# Altium integrated library TI Data Converters Analog to Digital Converter.IntLib: 2197 symbols (part 147 of 168)
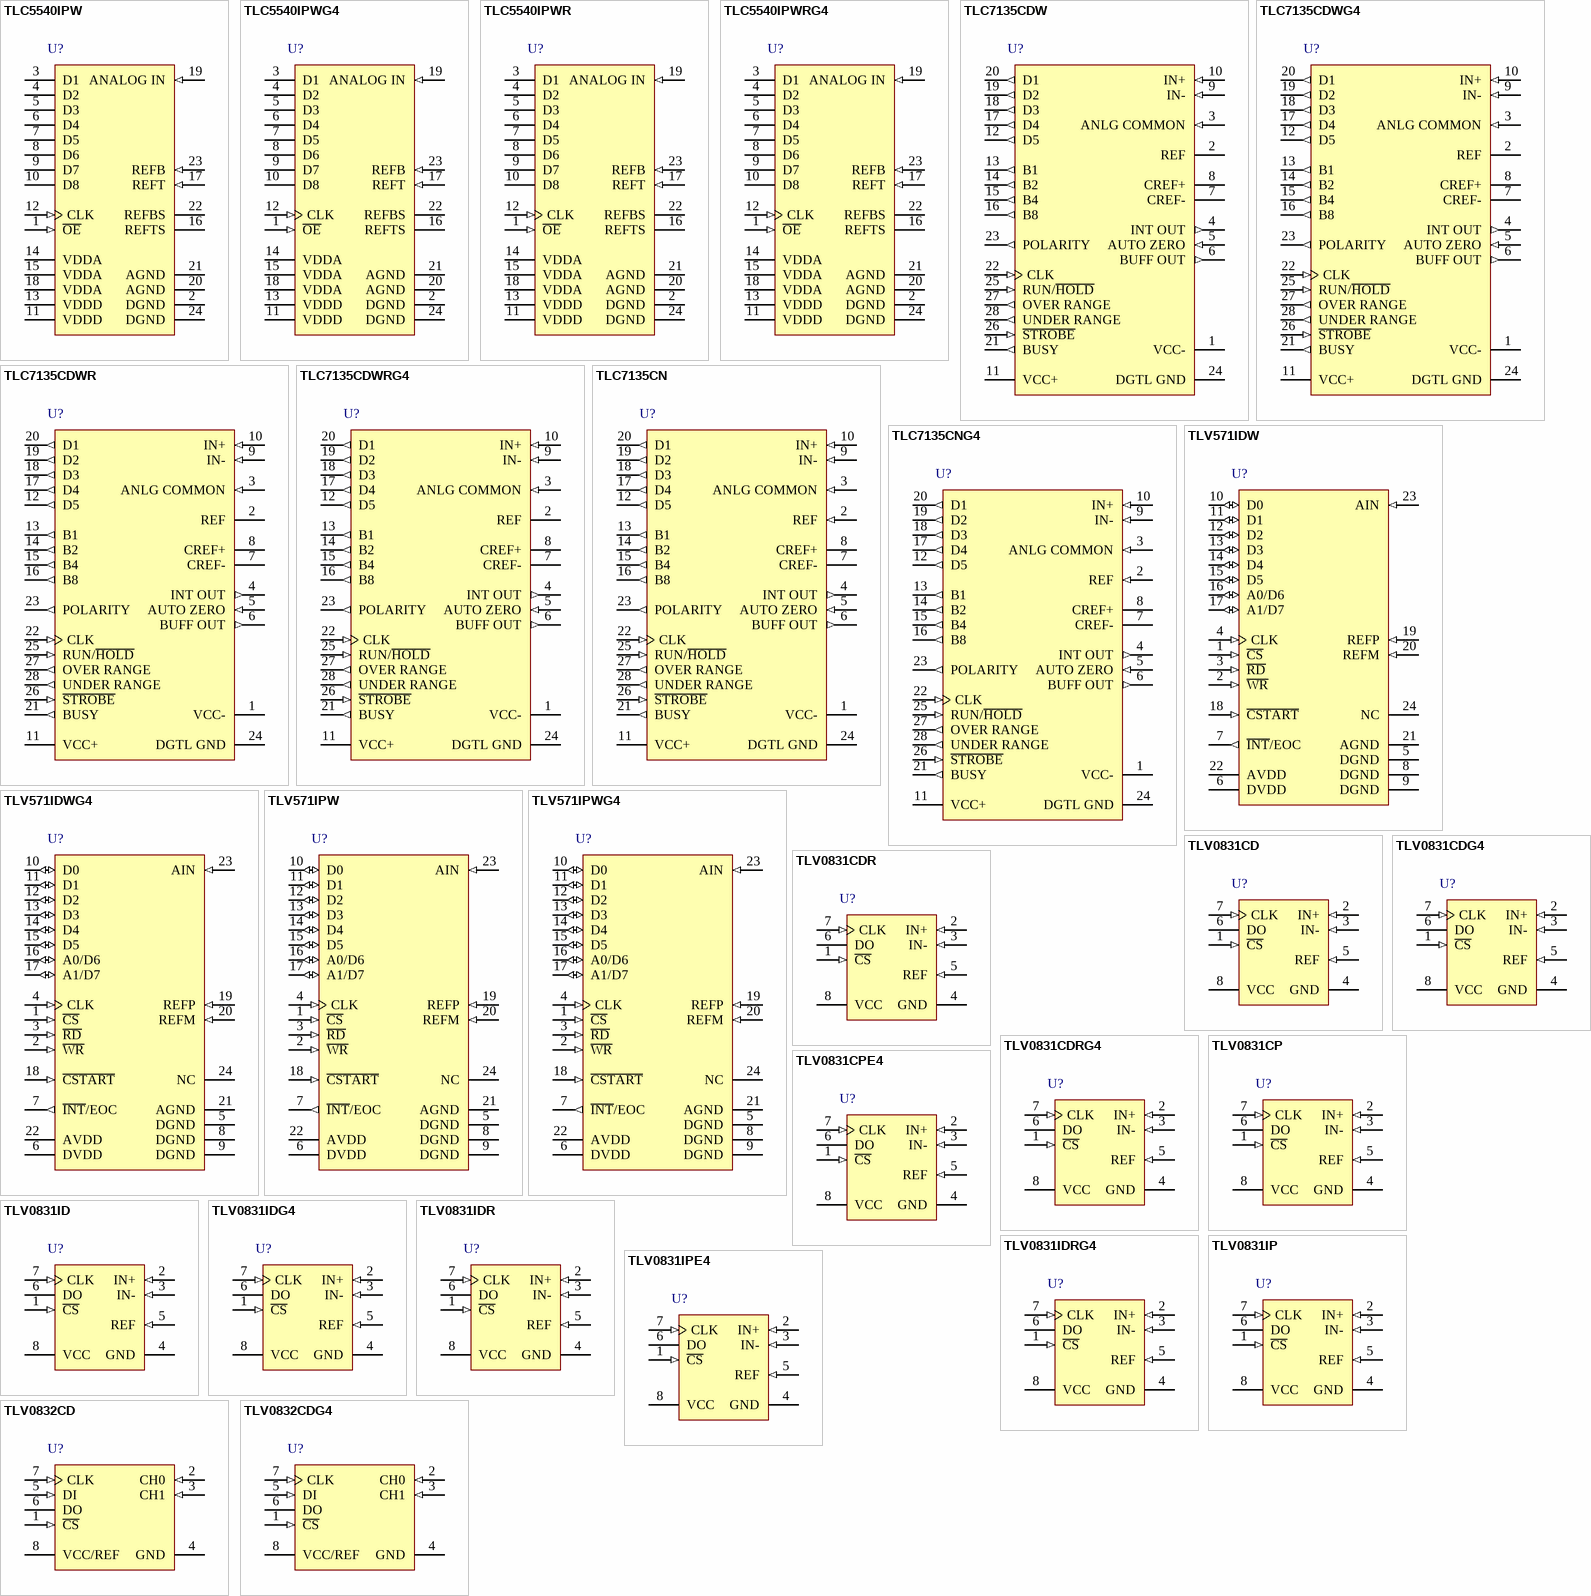
[diagram p272: symbols TLC5540IPW to TLV0832CDG4]

## TLV571IPWG4
designator U?
8-Bit, 1.25 MSPS Single Channel ADC, Hardware Configurable, Low Power with Auto or Software Power Down, -40 to 85 degC, 24-pin SOP (PW24), Green (RoHS & no Sb/Br); Manufacturer: Texas Instruments; PartNumber: TLV571IPWG4; # Input Channels: 1; Analog Voltage AV/DD(Max)(V): 5.5; Analog Voltage AV/DD(Min)(V): 2.7; Architecture: SAR; INL(Max)(+/-LSB): 0.5; Interface: Parallel CMOS; Resolution(Bits): 8; Sample Rate (max)(SPS): 1.25M; SFDR(dB): 65; SINAD(dB): 49; SubFamily: Precision ADC (<=10MSPS); DatasheetVersion: SLAS239A; PackageVersion: 4040064-6/G, 02/2011; PackageReference: PW24; PackageDescription: 24-Pin Plastic Small Outline, Body 7.8 x 4.4 mm, Pitch 0.65 mm; Supplier 1: Digi-Key; Supplier Part Number 1: 296-27933-ND; Supplier 2: Farnell; Supplier Part Number 2: 1855113; Supplier 3: Newark; Supplier Part Number 3: 13T1874; Supplier 4: Mouser; Supplier Part Number 4: 595-ADS1296IPAG; Digital Supply(Max)(V): 5.5; Digital Supply(Min)(V): 2.7; Eco-Plan: Green (RoHS & no Sb/Br); SNR(dB): 49; Mounting Technology: Surface Mount; Code_JEDEC: MO-153; ComponentLink1Description: Manufacturer URL; ComponentLink1URL: http://www.ti.com/; ComponentLink2Description: Datasheet; ComponentLink2URL: http://www.ti.com/general/docs/lit/getliterature.tsp?genericPartNumber=TLV571&fileType=pdf; ComponentLink3Description: Package Specification; ComponentLink3URL: http://www.ti.com/litv/pdf/mpds363
footprint TI-PW24_N (SOP, 24-Leads, Body 7.8x4.4mm, Pitch 0.65mm, IPC Medium Density)
footprint TI-PW24_L (SOP, 24-Leads, Body 7.8x4.4mm, Pitch 0.65mm, IPC High Density)
footprint TI-PW24_M (SOP, 24-Leads, Body 7.8x4.4mm, Pitch 0.65mm, IPC Low Density)
pins: 1 ~{CS} (in) "Chip select. A logic low on C\S\ enables the TLV571.", 2 ~{WR} (in) "Write data. A rising edge on the W\R\ latches in configuration data when C\S\ is low. When using software conversion start, a rising edge on W\R\ also initiates an internal sampling start pulse. When W\R\ is tied to ground, (See Datasheet)", 3 ~{RD} (in) "Read data. A falling edge on R\D\ enables a read operation on the data bus when C\S\ is low.", 4 CLK (in) "External clock input", 5 DGND (power) "Digital ground", 6 DVDD (power) "Digital supply voltage, 2.7 V to 5.5 V", 7 ~{INT}/EOC (out) "End-of-conversion/interrupt", 8 DGND (power) "Digital ground", 9 DGND (power) "Digital ground", 10 D0 (io) "Bidirectional 3-state data bus", 11 D1 (io) "Bidirectional 3-state data bus", 12 D2 (io) "Bidirectional 3-state data bus", 13 D3 (io) "Bidirectional 3-state data bus", 14 D4 (io) "Bidirectional 3-state data bus", 15 D5 (io) "Bidirectional 3-state data bus", 16 A0/D6 (io) "Bidirectional 3-state data bus. D6/A0 along with D7/A1 is used as address lines to access CR0 and CR1 for initialization.", 17 A1/D7 (io) "Bidirectional 3-state data bus. D7/A1 along with D6/A0 is used as address lines to access CR0 and CR1 for initialization.", 18 ~{CSTART} (in) "Hardware sample and conversion start input. The falling edge of C\S\T\A\R\T\ starts sampling and the rising edge of C\S\T\A\R\T\ starts conversion.", 19 REFP (in) "Upper reference voltage (nominally AVDD). The maximum input voltage range is determined by the difference between the voltage applied to REFP and REFM.", 20 REFM (in) "Lower reference voltage (nominally ground). REFM must be supplied or REFM pin must be grounded.", 21 AGND (power) "Analog ground", 22 AVDD (power) "Analog supply voltage, 2.7 V to 5.5 V", 23 AIN (in) "ADC analog input", 24 NC "Not connected"

## TLV0831CD
designator U?
8-Bit 49 kSPS ADC Serial Out, Differential Input, Configurable as Serial Input, 1 Channel, 0 to 70 degC, 8-pin SOIC (D8), Green (RoHS and no Sb/Br); Manufacturer: Texas Instruments; PartNumber: TLV0831CD; # Input Channels: 1; Analog Voltage AV/DD(Max)(V): 3.6; Analog Voltage AV/DD(Min)(V): 2.7; Architecture: SAR; Eco-Plan: Green (RoHS & no Sb/Br); Interface: Serial SPI; Resolution(Bits): 8; Sample Rate (max)(SPS): 49k; SubFamily: Precision ADC (<=10MSPS); DatasheetVersion: SLAS148; PackageVersion: 4040047-3/M, 06/2011; PackageReference: D8; PackageDescription: 8-Pin Plastic Small Outline, Body 4.9 x 3.9 mm, Pitch 1.27 mm; Supplier 1: Digi-Key; Supplier Part Number 1: ADS1296IPAGR-ND; Supplier 2: Mouser; Supplier Part Number 2: 595-ADS1296IPAGR; Digital Supply(Max)(V): 3.6; Digital Supply(Min)(V): 2.7; Mounting Technology: Surface Mount; Code_JEDEC: MS-012; ComponentLink1Description: Manufacturer URL; ComponentLink1URL: http://www.ti.com/; ComponentLink2Description: Datasheet; ComponentLink2URL: http://www.ti.com/general/docs/lit/getliterature.tsp?genericPartNumber=TLV0831&fileType=pdf; ComponentLink3Description: Package Specification; ComponentLink3URL: http://www.ti.com/litv/pdf/msoi002j
footprint TI-D8_N (SOIC, 8-Leads, Body 4.9x3.9mm, Pitch 1.27mm, IPC Medium Density)
footprint TI-D8_L (SOIC, 8-Leads, Body 4.9x3.9mm, Pitch 1.27mm, IPC High Density)
footprint TI-D8_M (SOIC, 8-Leads, Body 4.9x3.9mm, Pitch 1.27mm, IPC Low Density)
pins: 1 ~{CS} (in), 2 IN+ (in), 3 IN- (in), 4 GND (power), 5 REF (in), 6 DO (hiz), 7 CLK (in), 8 VCC (power)

## TLV0831CDG4
designator U?
8-Bit 49 kSPS ADC Serial Out, Differential Input, Configurable as Serial Input, 1 Channel, 0 to 70 degC, 8-pin SOIC (D8), Green (RoHS and no Sb/Br); Manufacturer: Texas Instruments; PartNumber: TLV0831CDG4; # Input Channels: 1; Analog Voltage AV/DD(Max)(V): 3.6; Analog Voltage AV/DD(Min)(V): 2.7; Architecture: SAR; Eco-Plan: Green (RoHS & no Sb/Br); Interface: Serial SPI; Resolution(Bits): 8; Sample Rate (max)(SPS): 49k; SubFamily: Precision ADC (<=10MSPS); DatasheetVersion: SLAS148; PackageVersion: 4040047-3/M, 06/2011; PackageReference: D8; PackageDescription: 8-Pin Plastic Small Outline, Body 4.9 x 3.9 mm, Pitch 1.27 mm; Supplier 1: Digi-Key; Supplier Part Number 1: ADS1294RIZXGR-ND; Supplier 2: Mouser; Supplier Part Number 2: 595-ADS1294RIZXGR; Digital Supply(Max)(V): 3.6; Digital Supply(Min)(V): 2.7; Mounting Technology: Surface Mount; Code_JEDEC: MS-012; ComponentLink1Description: Manufacturer URL; ComponentLink1URL: http://www.ti.com/; ComponentLink2Description: Datasheet; ComponentLink2URL: http://www.ti.com/general/docs/lit/getliterature.tsp?genericPartNumber=TLV0831&fileType=pdf; ComponentLink3Description: Package Specification; ComponentLink3URL: http://www.ti.com/litv/pdf/msoi002j
footprint TI-D8_N (SOIC, 8-Leads, Body 4.9x3.9mm, Pitch 1.27mm, IPC Medium Density)
footprint TI-D8_L (SOIC, 8-Leads, Body 4.9x3.9mm, Pitch 1.27mm, IPC High Density)
footprint TI-D8_M (SOIC, 8-Leads, Body 4.9x3.9mm, Pitch 1.27mm, IPC Low Density)
pins: 1 ~{CS} (in), 2 IN+ (in), 3 IN- (in), 4 GND (power), 5 REF (in), 6 DO (hiz), 7 CLK (in), 8 VCC (power)

## TLV0831CDR
designator U?
8-Bit 49 kSPS ADC Serial Out, Differential Input, Configurable as Serial Input, 1 Channel, 0 to 70 degC, 8-pin SOIC (D8), Green (RoHS and no Sb/Br); Manufacturer: Texas Instruments; PartNumber: TLV0831CDR; # Input Channels: 1; Analog Voltage AV/DD(Max)(V): 3.6; Analog Voltage AV/DD(Min)(V): 2.7; Architecture: SAR; Eco-Plan: Green (RoHS & no Sb/Br); Interface: Serial SPI; Resolution(Bits): 8; Sample Rate (max)(SPS): 49k; SubFamily: Precision ADC (<=10MSPS); DatasheetVersion: SLAS148; PackageVersion: 4040047-3/M, 06/2011; PackageReference: D8; PackageDescription: 8-Pin Plastic Small Outline, Body 4.9 x 3.9 mm, Pitch 1.27 mm; Supplier 1: Digi-Key; Supplier Part Number 1: 296-28271-2-ND; Supplier 2: Digi-Key; Supplier Part Number 2: 296-28271-1-ND; Supplier 3: Digi-Key; Supplier Part Number 3: 296-28271-6-ND; Supplier 4: Farnell; Supplier Part Number 4: 1882262; Supplier 5: Newark; Supplier Part Number 5: 32T2529; Supplier 6: Mouser; Supplier Part Number 6: 595-ADS1294RIZXGT; Digital Supply(Max)(V): 3.6; Digital Supply(Min)(V): 2.7; Mounting Technology: Surface Mount; Code_JEDEC: MS-012; ComponentLink1Description: Manufacturer URL; ComponentLink1URL: http://www.ti.com/; ComponentLink2Description: Datasheet; ComponentLink2URL: http://www.ti.com/general/docs/lit/getliterature.tsp?genericPartNumber=TLV0831&fileType=pdf; ComponentLink3Description: Package Specification; ComponentLink3URL: http://www.ti.com/litv/pdf/msoi002j
footprint TI-D8_N (SOIC, 8-Leads, Body 4.9x3.9mm, Pitch 1.27mm, IPC Medium Density)
footprint TI-D8_L (SOIC, 8-Leads, Body 4.9x3.9mm, Pitch 1.27mm, IPC High Density)
footprint TI-D8_M (SOIC, 8-Leads, Body 4.9x3.9mm, Pitch 1.27mm, IPC Low Density)
pins: 1 ~{CS} (in), 2 IN+ (in), 3 IN- (in), 4 GND (power), 5 REF (in), 6 DO (hiz), 7 CLK (in), 8 VCC (power)

## TLV0831CDRG4
designator U?
8-Bit 49 kSPS ADC Serial Out, Differential Input, Configurable as Serial Input, 1 Channel, 0 to 70 degC, 8-pin SOIC (D8), Green (RoHS and no Sb/Br); Manufacturer: Texas Instruments; PartNumber: TLV0831CDRG4; # Input Channels: 1; Analog Voltage AV/DD(Max)(V): 3.6; Analog Voltage AV/DD(Min)(V): 2.7; Architecture: SAR; Eco-Plan: Green (RoHS & no Sb/Br); Interface: Serial SPI; Resolution(Bits): 8; Sample Rate (max)(SPS): 49k; SubFamily: Precision ADC (<=10MSPS); DatasheetVersion: SLAS148; PackageVersion: 4040047-3/M, 06/2011; PackageReference: D8; PackageDescription: 8-Pin Plastic Small Outline, Body 4.9 x 3.9 mm, Pitch 1.27 mm; Supplier 1: Digi-Key; Supplier Part Number 1: ADS1294CZXGR-ND; Supplier 2: Newark; Supplier Part Number 2: 17T1596; Supplier 3: Mouser; Supplier Part Number 3: 595-ADS1294CZXGR; Digital Supply(Max)(V): 3.6; Digital Supply(Min)(V): 2.7; Mounting Technology: Surface Mount; Code_JEDEC: MS-012; ComponentLink1Description: Manufacturer URL; ComponentLink1URL: http://www.ti.com/; ComponentLink2Description: Datasheet; ComponentLink2URL: http://www.ti.com/general/docs/lit/getliterature.tsp?genericPartNumber=TLV0831&fileType=pdf; ComponentLink3Description: Package Specification; ComponentLink3URL: http://www.ti.com/litv/pdf/msoi002j
footprint TI-D8_N (SOIC, 8-Leads, Body 4.9x3.9mm, Pitch 1.27mm, IPC Medium Density)
footprint TI-D8_L (SOIC, 8-Leads, Body 4.9x3.9mm, Pitch 1.27mm, IPC High Density)
footprint TI-D8_M (SOIC, 8-Leads, Body 4.9x3.9mm, Pitch 1.27mm, IPC Low Density)
pins: 1 ~{CS} (in), 2 IN+ (in), 3 IN- (in), 4 GND (power), 5 REF (in), 6 DO (hiz), 7 CLK (in), 8 VCC (power)

## TLV0831CP
designator U?
8-Bit 49 kSPS ADC Serial Out, Differential Input, Configurable as Serial Input, 1 Channel, 0 to 70 degC, 8-pin DIP (P8), Green (RoHS and no Sb/Br); Manufacturer: Texas Instruments; PartNumber: TLV0831CP; # Input Channels: 1; Analog Voltage AV/DD(Max)(V): 3.6; Analog Voltage AV/DD(Min)(V): 2.7; Architecture: SAR; Eco-Plan: Green (RoHS & no Sb/Br); Interface: Serial SPI; Resolution(Bits): 8; Sample Rate (max)(SPS): 49k; SubFamily: Precision ADC (<=10MSPS); DatasheetVersion: SLAS148; PackageVersion: 4040082/E, 04/2010; PackageReference: P8; PackageDescription: 8-Pin Plastic In-Line, Body 9.59 x 6.35 mm, Pitch 2.54 mm; Supplier 1: Digi-Key; Supplier Part Number 1: 296-28024-2-ND; Supplier 2: Digi-Key; Supplier Part Number 2: 296-28024-1-ND; Supplier 3: Digi-Key; Supplier Part Number 3: 296-28024-6-ND; Supplier 4: Farnell; Supplier Part Number 4: 1864806; Supplier 5: Newark; Supplier Part Number 5: 17T1597; Supplier 6: Mouser; Supplier Part Number 6: 595-ADS1294CZXGT; Digital Supply(Max)(V): 3.6; Digital Supply(Min)(V): 2.7; Mounting Technology: Through Hole; Code_JEDEC: MS-001; ComponentLink1Description: Manufacturer URL; ComponentLink1URL: http://www.ti.com/; ComponentLink2Description: Datasheet; ComponentLink2URL: http://www.ti.com/general/docs/lit/getliterature.tsp?genericPartNumber=TLV0831&fileType=pdf; ComponentLink3Description: Package Specification; ComponentLink3URL: http://www.ti.com/litv/pdf/mpdi001b
footprint TI-P8 (DIP, 8-Leads, Body 9.59x6.35mm, Pitch 2.54mm)
pins: 1 ~{CS} (in), 2 IN+ (in), 3 IN- (in), 4 GND (power), 5 REF (in), 6 DO (hiz), 7 CLK (in), 8 VCC (power)

## TLV0831CPE4
designator U?
8-Bit 49 kSPS ADC Serial Out, Differential Input, Configurable as Serial Input, 1 Channel, 0 to 70 degC, 8-pin DIP (P8), Green (RoHS and no Sb/Br); Manufacturer: Texas Instruments; PartNumber: TLV0831CPE4; # Input Channels: 1; Analog Voltage AV/DD(Max)(V): 3.6; Analog Voltage AV/DD(Min)(V): 2.7; Architecture: SAR; Eco-Plan: Green (RoHS & no Sb/Br); Interface: Serial SPI; Resolution(Bits): 8; Sample Rate (max)(SPS): 49k; SubFamily: Precision ADC (<=10MSPS); DatasheetVersion: SLAS148; PackageVersion: 4040082/E, 04/2010; PackageReference: P8; PackageDescription: 8-Pin Plastic In-Line, Body 9.59 x 6.35 mm, Pitch 2.54 mm; Supplier 1: Digi-Key; Supplier Part Number 1: 296-27932-ND; Supplier 2: Farnell; Supplier Part Number 2: 1855112; Supplier 3: Newark; Supplier Part Number 3: 13T1872; Supplier 4: Mouser; Supplier Part Number 4: 595-ADS1294IPAG; Digital Supply(Max)(V): 3.6; Digital Supply(Min)(V): 2.7; Mounting Technology: Through Hole; Code_JEDEC: MS-001; ComponentLink1Description: Manufacturer URL; ComponentLink1URL: http://www.ti.com/; ComponentLink2Description: Datasheet; ComponentLink2URL: http://www.ti.com/general/docs/lit/getliterature.tsp?genericPartNumber=TLV0831&fileType=pdf; ComponentLink3Description: Package Specification; ComponentLink3URL: http://www.ti.com/litv/pdf/mpdi001b
footprint TI-P8 (DIP, 8-Leads, Body 9.59x6.35mm, Pitch 2.54mm)
pins: 1 ~{CS} (in), 2 IN+ (in), 3 IN- (in), 4 GND (power), 5 REF (in), 6 DO (hiz), 7 CLK (in), 8 VCC (power)

## TLV0831ID
designator U?
8-Bit 49 kSPS ADC Serial Out, Differential Input, Configurable as Serial Input, 1 Channel, -40 to 85 degC, 8-pin SOIC (D8), Green (RoHS and no Sb/Br); Manufacturer: Texas Instruments; PartNumber: TLV0831ID; # Input Channels: 1; Analog Voltage AV/DD(Max)(V): 3.6; Analog Voltage AV/DD(Min)(V): 2.7; Architecture: SAR; Eco-Plan: Green (RoHS & no Sb/Br); Interface: Serial SPI; Resolution(Bits): 8; Sample Rate (max)(SPS): 49k; SubFamily: Precision ADC (<=10MSPS); DatasheetVersion: SLAS148; PackageVersion: 4040047-3/M, 06/2011; PackageReference: D8; PackageDescription: 8-Pin Plastic Small Outline, Body 4.9 x 3.9 mm, Pitch 1.27 mm; Supplier 1: Digi-Key; Supplier Part Number 1: ADS1294IPAGR-ND; Supplier 2: Mouser; Supplier Part Number 2: 595-ADS1294IPAGR; Digital Supply(Max)(V): 3.6; Digital Supply(Min)(V): 2.7; Mounting Technology: Surface Mount; Code_JEDEC: MS-012; ComponentLink1Description: Manufacturer URL; ComponentLink1URL: http://www.ti.com/; ComponentLink2Description: Datasheet; ComponentLink2URL: http://www.ti.com/general/docs/lit/getliterature.tsp?genericPartNumber=TLV0831&fileType=pdf; ComponentLink3Description: Package Specification; ComponentLink3URL: http://www.ti.com/litv/pdf/msoi002j
footprint TI-D8_N (SOIC, 8-Leads, Body 4.9x3.9mm, Pitch 1.27mm, IPC Medium Density)
footprint TI-D8_L (SOIC, 8-Leads, Body 4.9x3.9mm, Pitch 1.27mm, IPC High Density)
footprint TI-D8_M (SOIC, 8-Leads, Body 4.9x3.9mm, Pitch 1.27mm, IPC Low Density)
pins: 1 ~{CS} (in), 2 IN+ (in), 3 IN- (in), 4 GND (power), 5 REF (in), 6 DO (hiz), 7 CLK (in), 8 VCC (power)

## TLV0831IDG4
designator U?
8-Bit 49 kSPS ADC Serial Out, Differential Input, Configurable as Serial Input, 1 Channel, -40 to 85 degC, 8-pin SOIC (D8), Green (RoHS and no Sb/Br); Manufacturer: Texas Instruments; PartNumber: TLV0831IDG4; # Input Channels: 1; Analog Voltage AV/DD(Max)(V): 3.6; Analog Voltage AV/DD(Min)(V): 2.7; Architecture: SAR; Eco-Plan: Green (RoHS & no Sb/Br); Interface: Serial SPI; Resolution(Bits): 8; Sample Rate (max)(SPS): 49k; SubFamily: Precision ADC (<=10MSPS); DatasheetVersion: SLAS148; PackageVersion: 4040047-3/M, 06/2011; PackageReference: D8; PackageDescription: 8-Pin Plastic Small Outline, Body 4.9 x 3.9 mm, Pitch 1.27 mm; Supplier 1: Digi-Key; Supplier Part Number 1: 296-27931-ND; Supplier 2: Farnell; Supplier Part Number 2: 1855110; Supplier 3: Newark; Supplier Part Number 3: 13T1868; Supplier 4: Mouser; Supplier Part Number 4: 595-ADS1194CPAG; Digital Supply(Max)(V): 3.6; Digital Supply(Min)(V): 2.7; Mounting Technology: Surface Mount; Code_JEDEC: MS-012; ComponentLink1Description: Manufacturer URL; ComponentLink1URL: http://www.ti.com/; ComponentLink2Description: Datasheet; ComponentLink2URL: http://www.ti.com/general/docs/lit/getliterature.tsp?genericPartNumber=TLV0831&fileType=pdf; ComponentLink3Description: Package Specification; ComponentLink3URL: http://www.ti.com/litv/pdf/msoi002j
footprint TI-D8_N (SOIC, 8-Leads, Body 4.9x3.9mm, Pitch 1.27mm, IPC Medium Density)
footprint TI-D8_L (SOIC, 8-Leads, Body 4.9x3.9mm, Pitch 1.27mm, IPC High Density)
footprint TI-D8_M (SOIC, 8-Leads, Body 4.9x3.9mm, Pitch 1.27mm, IPC Low Density)
pins: 1 ~{CS} (in), 2 IN+ (in), 3 IN- (in), 4 GND (power), 5 REF (in), 6 DO (hiz), 7 CLK (in), 8 VCC (power)

## TLV0831IDR
designator U?
8-Bit 49 kSPS ADC Serial Out, Differential Input, Configurable as Serial Input, 1 Channel, -40 to 85 degC, 8-pin SOIC (D8), Green (RoHS and no Sb/Br); Manufacturer: Texas Instruments; PartNumber: TLV0831IDR; # Input Channels: 1; Analog Voltage AV/DD(Max)(V): 3.6; Analog Voltage AV/DD(Min)(V): 2.7; Architecture: SAR; Eco-Plan: Green (RoHS & no Sb/Br); Interface: Serial SPI; Resolution(Bits): 8; Sample Rate (max)(SPS): 49k; SubFamily: Precision ADC (<=10MSPS); DatasheetVersion: SLAS148; PackageVersion: 4040047-3/M, 06/2011; PackageReference: D8; PackageDescription: 8-Pin Plastic Small Outline, Body 4.9 x 3.9 mm, Pitch 1.27 mm; Supplier 1: Digi-Key; Supplier Part Number 1: ADS1194CPAGR-ND; Supplier 2: Newark; Supplier Part Number 2: 13T1869; Supplier 3: Mouser; Supplier Part Number 3: 595-ADS1194CPAGR; Digital Supply(Max)(V): 3.6; Digital Supply(Min)(V): 2.7; Mounting Technology: Surface Mount; Code_JEDEC: MS-012; ComponentLink1Description: Manufacturer URL; ComponentLink1URL: http://www.ti.com/; ComponentLink2Description: Datasheet; ComponentLink2URL: http://www.ti.com/general/docs/lit/getliterature.tsp?genericPartNumber=TLV0831&fileType=pdf; ComponentLink3Description: Package Specification; ComponentLink3URL: http://www.ti.com/litv/pdf/msoi002j
footprint TI-D8_N (SOIC, 8-Leads, Body 4.9x3.9mm, Pitch 1.27mm, IPC Medium Density)
footprint TI-D8_L (SOIC, 8-Leads, Body 4.9x3.9mm, Pitch 1.27mm, IPC High Density)
footprint TI-D8_M (SOIC, 8-Leads, Body 4.9x3.9mm, Pitch 1.27mm, IPC Low Density)
pins: 1 ~{CS} (in), 2 IN+ (in), 3 IN- (in), 4 GND (power), 5 REF (in), 6 DO (hiz), 7 CLK (in), 8 VCC (power)

## TLV0831IDRG4
designator U?
8-Bit 49 kSPS ADC Serial Out, Differential Input, Configurable as Serial Input, 1 Channel, -40 to 85 degC, 8-pin SOIC (D8), Green (RoHS and no Sb/Br); Manufacturer: Texas Instruments; PartNumber: TLV0831IDRG4; # Input Channels: 1; Analog Voltage AV/DD(Max)(V): 3.6; Analog Voltage AV/DD(Min)(V): 2.7; Architecture: SAR; Eco-Plan: Green (RoHS & no Sb/Br); Interface: Serial SPI; Resolution(Bits): 8; Sample Rate (max)(SPS): 49k; SubFamily: Precision ADC (<=10MSPS); DatasheetVersion: SLAS148; PackageVersion: 4040047-3/M, 06/2011; PackageReference: D8; PackageDescription: 8-Pin Plastic Small Outline, Body 4.9 x 3.9 mm, Pitch 1.27 mm; Supplier 1: Digi-Key; Supplier Part Number 1: ADS1194CZXGR-ND; Supplier 2: Mouser; Supplier Part Number 2: 595-ADS1194CZXGR; Digital Supply(Max)(V): 3.6; Digital Supply(Min)(V): 2.7; Mounting Technology: Surface Mount; Code_JEDEC: MS-012; ComponentLink1Description: Manufacturer URL; ComponentLink1URL: http://www.ti.com/; ComponentLink2Description: Datasheet; ComponentLink2URL: http://www.ti.com/general/docs/lit/getliterature.tsp?genericPartNumber=TLV0831&fileType=pdf; ComponentLink3Description: Package Specification; ComponentLink3URL: http://www.ti.com/litv/pdf/msoi002j
footprint TI-D8_N (SOIC, 8-Leads, Body 4.9x3.9mm, Pitch 1.27mm, IPC Medium Density)
footprint TI-D8_L (SOIC, 8-Leads, Body 4.9x3.9mm, Pitch 1.27mm, IPC High Density)
footprint TI-D8_M (SOIC, 8-Leads, Body 4.9x3.9mm, Pitch 1.27mm, IPC Low Density)
pins: 1 ~{CS} (in), 2 IN+ (in), 3 IN- (in), 4 GND (power), 5 REF (in), 6 DO (hiz), 7 CLK (in), 8 VCC (power)

## TLV0831IP
designator U?
8-Bit 49 kSPS ADC Serial Out, Differential Input, Configurable as Serial Input, 1 Channel, -40 to 85 degC, 8-pin DIP (P8), Green (RoHS and no Sb/Br); Manufacturer: Texas Instruments; PartNumber: TLV0831IP; # Input Channels: 1; Analog Voltage AV/DD(Max)(V): 3.6; Analog Voltage AV/DD(Min)(V): 2.7; Architecture: SAR; Eco-Plan: Green (RoHS & no Sb/Br); Interface: Serial SPI; Resolution(Bits): 8; Sample Rate (max)(SPS): 49k; SubFamily: Precision ADC (<=10MSPS); DatasheetVersion: SLAS148; PackageVersion: 4040082/E, 04/2010; PackageReference: P8; PackageDescription: 8-Pin Plastic In-Line, Body 9.59 x 6.35 mm, Pitch 2.54 mm; Supplier 1: Digi-Key; Supplier Part Number 1: 296-28070-2-ND; Supplier 2: Digi-Key; Supplier Part Number 2: 296-28070-1-ND; Supplier 3: Digi-Key; Supplier Part Number 3: 296-28070-6-ND; Supplier 4: Mouser; Supplier Part Number 4: 595-ADS1194CZXGT; Digital Supply(Max)(V): 3.6; Digital Supply(Min)(V): 2.7; Mounting Technology: Through Hole; Code_JEDEC: MS-001; ComponentLink1Description: Manufacturer URL; ComponentLink1URL: http://www.ti.com/; ComponentLink2Description: Datasheet; ComponentLink2URL: http://www.ti.com/general/docs/lit/getliterature.tsp?genericPartNumber=TLV0831&fileType=pdf; ComponentLink3Description: Package Specification; ComponentLink3URL: http://www.ti.com/litv/pdf/mpdi001b
footprint TI-P8 (DIP, 8-Leads, Body 9.59x6.35mm, Pitch 2.54mm)
pins: 1 ~{CS} (in), 2 IN+ (in), 3 IN- (in), 4 GND (power), 5 REF (in), 6 DO (hiz), 7 CLK (in), 8 VCC (power)

## TLV0831IPE4
designator U?
8-Bit 49 kSPS ADC Serial Out, Differential Input, Configurable as Serial Input, 1 Channel, -40 to 85 degC, 8-pin DIP (P8), Green (RoHS and no Sb/Br); Manufacturer: Texas Instruments; PartNumber: TLV0831IPE4; # Input Channels: 1; Analog Voltage AV/DD(Max)(V): 3.6; Analog Voltage AV/DD(Min)(V): 2.7; Architecture: SAR; Eco-Plan: Green (RoHS & no Sb/Br); Interface: Serial SPI; Resolution(Bits): 8; Sample Rate (max)(SPS): 49k; SubFamily: Precision ADC (<=10MSPS); DatasheetVersion: SLAS148; PackageVersion: 4040082/E, 04/2010; PackageReference: P8; PackageDescription: 8-Pin Plastic In-Line, Body 9.59 x 6.35 mm, Pitch 2.54 mm; Supplier 1: Digi-Key; Supplier Part Number 1: 296-13365-5-ND; Supplier 2: Mouser; Supplier Part Number 2: 595-TLV2544QD; Digital Supply(Max)(V): 3.6; Digital Supply(Min)(V): 2.7; Mounting Technology: Through Hole; Code_JEDEC: MS-001; ComponentLink1Description: Manufacturer URL; ComponentLink1URL: http://www.ti.com/; ComponentLink2Description: Datasheet; ComponentLink2URL: http://www.ti.com/general/docs/lit/getliterature.tsp?genericPartNumber=TLV0831&fileType=pdf; ComponentLink3Description: Package Specification; ComponentLink3URL: http://www.ti.com/litv/pdf/mpdi001b
footprint TI-P8 (DIP, 8-Leads, Body 9.59x6.35mm, Pitch 2.54mm)
pins: 1 ~{CS} (in), 2 IN+ (in), 3 IN- (in), 4 GND (power), 5 REF (in), 6 DO (hiz), 7 CLK (in), 8 VCC (power)

## TLV0832CD
designator U?
8-Bit 44.7 kSPS ADC Serial Out, Multiplexed Twin Channel with Single-Ended or Differential Option, 0 to 70 degC , 8-pin SOIC (D8), Green (RoHS & no Sb/Br); Manufacturer: Texas Instruments; PartNumber: TLV0832CD; # Input Channels: 2; Analog Voltage AV/DD(Max)(V): 3.6; Analog Voltage AV/DD(Min)(V): 2.7; Architecture: SAR; INL(Max)(+/-LSB): 0.5; Interface: Serial SPI; Resolution(Bits): 8; Sample Rate (max)(SPS): 44.7k; SubFamily: Precision ADC (<=10MSPS); DatasheetVersion: SLAS148; PackageVersion: 4040047-3/M, 06/2011; PackageReference: D8; PackageDescription: 8-Pin Plastic Small Outline, Body 4.9 x 3.9 mm, Pitch 1.27 mm; Supplier 1: Digi-Key; Supplier Part Number 1: TLV2544QDG4-ND; Supplier 2: Mouser; Supplier Part Number 2: 595-TLV2544QDG4; Digital Supply(Max)(V): 3.6; Digital Supply(Min)(V): 2.7; Eco-Plan: Green (RoHS & no Sb/Br); Mounting Technology: Surface Mount; Code_JEDEC: MS-012; ComponentLink1Description: Manufacturer URL; ComponentLink1URL: http://www.ti.com/; ComponentLink2Description: Datasheet; ComponentLink2URL: http://www.ti.com/general/docs/lit/getliterature.tsp?genericPartNumber=TLV0832&fileType=pdf; ComponentLink3Description: Package Specification; ComponentLink3URL: http://www.ti.com/litv/pdf/msoi002j
footprint TI-D8_N (SOIC, 8-Leads, Body 4.9x3.9mm, Pitch 1.27mm, IPC Medium Density)
footprint TI-D8_L (SOIC, 8-Leads, Body 4.9x3.9mm, Pitch 1.27mm, IPC High Density)
footprint TI-D8_M (SOIC, 8-Leads, Body 4.9x3.9mm, Pitch 1.27mm, IPC Low Density)
pins: 1 ~{CS} (in), 2 CH0 (in), 3 CH1 (in), 4 GND (power), 5 DI (in), 6 DO (hiz), 7 CLK (in), 8 VCC/REF (power)

## TLV0832CDG4
designator U?
8-Bit 44.7 kSPS ADC Serial Out, Multiplexed Twin Channel with Single-Ended or Differential Option, 0 to 70 degC , 8-pin SOIC (D8), Green (RoHS & no Sb/Br); Manufacturer: Texas Instruments; PartNumber: TLV0832CDG4; # Input Channels: 2; Analog Voltage AV/DD(Max)(V): 3.6; Analog Voltage AV/DD(Min)(V): 2.7; Architecture: SAR; INL(Max)(+/-LSB): 0.5; Interface: Serial SPI; Resolution(Bits): 8; Sample Rate (max)(SPS): 44.7k; SubFamily: Precision ADC (<=10MSPS); DatasheetVersion: SLAS148; PackageVersion: 4040047-3/M, 06/2011; PackageReference: D8; PackageDescription: 8-Pin Plastic Small Outline, Body 4.9 x 3.9 mm, Pitch 1.27 mm; Supplier 1: Digi-Key; Supplier Part Number 1: TLV2544QDR-ND; Supplier 2: Mouser; Supplier Part Number 2: 595-TLV2544QDR; Digital Supply(Max)(V): 3.6; Digital Supply(Min)(V): 2.7; Eco-Plan: Green (RoHS & no Sb/Br); Mounting Technology: Surface Mount; Code_JEDEC: MS-012; ComponentLink1Description: Manufacturer URL; ComponentLink1URL: http://www.ti.com/; ComponentLink2Description: Datasheet; ComponentLink2URL: http://www.ti.com/general/docs/lit/getliterature.tsp?genericPartNumber=TLV0832&fileType=pdf; ComponentLink3Description: Package Specification; ComponentLink3URL: http://www.ti.com/litv/pdf/msoi002j
footprint TI-D8_N (SOIC, 8-Leads, Body 4.9x3.9mm, Pitch 1.27mm, IPC Medium Density)
footprint TI-D8_L (SOIC, 8-Leads, Body 4.9x3.9mm, Pitch 1.27mm, IPC High Density)
footprint TI-D8_M (SOIC, 8-Leads, Body 4.9x3.9mm, Pitch 1.27mm, IPC Low Density)
pins: 1 ~{CS} (in), 2 CH0 (in), 3 CH1 (in), 4 GND (power), 5 DI (in), 6 DO (hiz), 7 CLK (in), 8 VCC/REF (power)

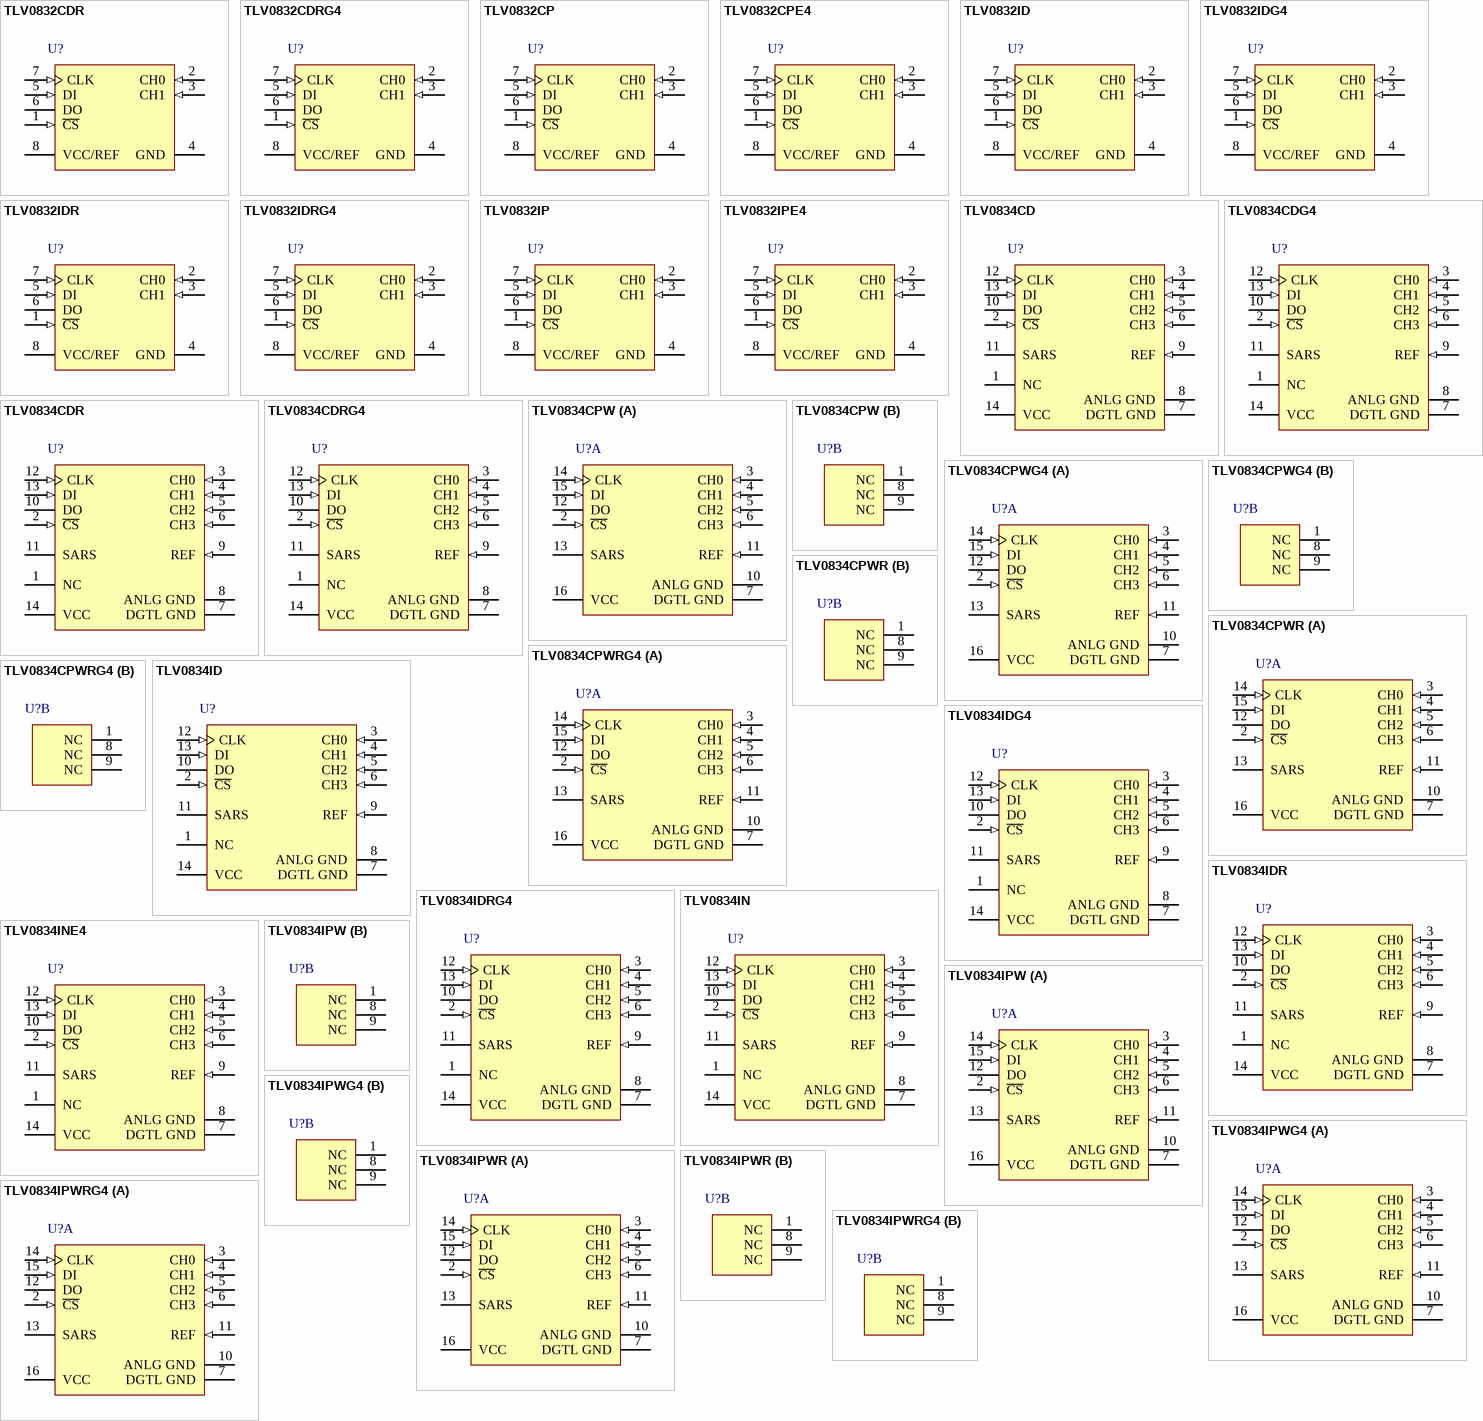
[diagram p116: symbols TLV0832CDR to TLV0834IPWRG4]

## TLV0832CDR
designator U?
8-Bit 44.7 kSPS ADC Serial Out, Multiplexed Twin Channel with Single-Ended or Differential Option, 0 to 70 degC , 8-pin SOIC (D8), Green (RoHS and no Sb/Br); Manufacturer: Texas Instruments; PartNumber: TLV0832CDR; # Input Channels: 2; Analog Voltage AV/DD(Max)(V): 3.6; Analog Voltage AV/DD(Min)(V): 2.7; Architecture: SAR; Eco-Plan: Green (RoHS & no Sb/Br); INL(Max)(+/-LSB): 0.5; Interface: Serial SPI; Resolution(Bits): 8; Sample Rate (max)(SPS): 44.7k; SubFamily: Precision ADC (<=10MSPS); DatasheetVersion: SLAS148; PackageVersion: 4040047-3/M, 06/2011; PackageReference: D8; PackageDescription: 8-Pin Plastic Small Outline, Body 4.9 x 3.9 mm, Pitch 1.27 mm; Supplier 1: Digi-Key; Supplier Part Number 1: TLV2544QDRG4-ND; Supplier 2: Mouser; Supplier Part Number 2: 595-TLV2544QDRG4; Digital Supply(Max)(V): 3.6; Digital Supply(Min)(V): 2.7; Mounting Technology: Surface Mount; Code_JEDEC: MS-012; ComponentLink1Description: Manufacturer URL; ComponentLink1URL: http://www.ti.com/; ComponentLink2Description: Datasheet; ComponentLink2URL: http://www.ti.com/general/docs/lit/getliterature.tsp?genericPartNumber=TLV0832&fileType=pdf; ComponentLink3Description: Package Specification; ComponentLink3URL: http://www.ti.com/litv/pdf/msoi002j
footprint TI-D8_N (SOIC, 8-Leads, Body 4.9x3.9mm, Pitch 1.27mm, IPC Medium Density)
footprint TI-D8_L (SOIC, 8-Leads, Body 4.9x3.9mm, Pitch 1.27mm, IPC High Density)
footprint TI-D8_M (SOIC, 8-Leads, Body 4.9x3.9mm, Pitch 1.27mm, IPC Low Density)
pins: 1 ~{CS} (in), 2 CH0 (in), 3 CH1 (in), 4 GND (power), 5 DI (in), 6 DO (hiz), 7 CLK (in), 8 VCC/REF (power)

## TLV0832CDRG4
designator U?
8-Bit 44.7 kSPS ADC Serial Out, Multiplexed Twin Channel with Single-Ended or Differential Option, 0 to 70 degC , 8-pin SOIC (D8), Green (RoHS and no Sb/Br); Manufacturer: Texas Instruments; PartNumber: TLV0832CDRG4; # Input Channels: 2; Analog Voltage AV/DD(Max)(V): 3.6; Analog Voltage AV/DD(Min)(V): 2.7; Architecture: SAR; Eco-Plan: Green (RoHS & no Sb/Br); INL(Max)(+/-LSB): 0.5; Interface: Serial SPI; Resolution(Bits): 8; Sample Rate (max)(SPS): 44.7k; SubFamily: Precision ADC (<=10MSPS); DatasheetVersion: SLAS148; PackageVersion: 4040047-3/M, 06/2011; PackageReference: D8; PackageDescription: 8-Pin Plastic Small Outline, Body 4.9 x 3.9 mm, Pitch 1.27 mm; Supplier 1: Digi-Key; Supplier Part Number 1: 296-30331-5-ND; Supplier 2: Farnell; Supplier Part Number 2: 2099882; Supplier 3: Newark; Supplier Part Number 3: 92T1985; Supplier 4: Mouser; Supplier Part Number 4: 595-ADS1292RIPBS; Digital Supply(Max)(V): 3.6; Digital Supply(Min)(V): 2.7; Mounting Technology: Surface Mount; Code_JEDEC: MS-012; ComponentLink1Description: Manufacturer URL; ComponentLink1URL: http://www.ti.com/; ComponentLink2Description: Datasheet; ComponentLink2URL: http://www.ti.com/general/docs/lit/getliterature.tsp?genericPartNumber=TLV0832&fileType=pdf; ComponentLink3Description: Package Specification; ComponentLink3URL: http://www.ti.com/litv/pdf/msoi002j
footprint TI-D8_N (SOIC, 8-Leads, Body 4.9x3.9mm, Pitch 1.27mm, IPC Medium Density)
footprint TI-D8_L (SOIC, 8-Leads, Body 4.9x3.9mm, Pitch 1.27mm, IPC High Density)
footprint TI-D8_M (SOIC, 8-Leads, Body 4.9x3.9mm, Pitch 1.27mm, IPC Low Density)
pins: 1 ~{CS} (in), 2 CH0 (in), 3 CH1 (in), 4 GND (power), 5 DI (in), 6 DO (hiz), 7 CLK (in), 8 VCC/REF (power)

## TLV0832CP
designator U?
8-Bit 44.7 kSPS ADC Serial Out, Multiplexed Twin Channel with Single-Ended or Differential Option, 0 to 70 degC , 8-pin DIP (P8), Green (RoHS and no Sb/Br); Manufacturer: Texas Instruments; PartNumber: TLV0832CP; # Input Channels: 2; Analog Voltage AV/DD(Max)(V): 3.6; Analog Voltage AV/DD(Min)(V): 2.7; Architecture: SAR; Eco-Plan: Green (RoHS & no Sb/Br); INL(Max)(+/-LSB): 0.5; Interface: Serial SPI; Resolution(Bits): 8; Sample Rate (max)(SPS): 44.7k; SubFamily: Precision ADC (<=10MSPS); DatasheetVersion: SLAS148; PackageVersion: 4040082/E, 04/2010; PackageReference: P8; PackageDescription: 8-Pin Plastic In-Line, Body 9.59 x 6.35 mm, Pitch 2.54 mm; Supplier 1: Digi-Key; Supplier Part Number 1: 296-30389-2-ND; Supplier 2: Digi-Key; Supplier Part Number 2: 296-30389-1-ND; Supplier 3: Digi-Key; Supplier Part Number 3: 296-30389-6-ND; Supplier 4: Newark; Supplier Part Number 4: 92T1986; Supplier 5: Mouser; Supplier Part Number 5: 595-ADS1292RIPBSR; Digital Supply(Max)(V): 3.6; Digital Supply(Min)(V): 2.7; Mounting Technology: Through Hole; Code_JEDEC: MS-001; ComponentLink1Description: Manufacturer URL; ComponentLink1URL: http://www.ti.com/; ComponentLink2Description: Datasheet; ComponentLink2URL: http://www.ti.com/general/docs/lit/getliterature.tsp?genericPartNumber=TLV0832&fileType=pdf; ComponentLink3Description: Package Specification; ComponentLink3URL: http://www.ti.com/litv/pdf/mpdi001b
footprint TI-P8 (DIP, 8-Leads, Body 9.59x6.35mm, Pitch 2.54mm)
pins: 1 ~{CS} (in), 2 CH0 (in), 3 CH1 (in), 4 GND (power), 5 DI (in), 6 DO (hiz), 7 CLK (in), 8 VCC/REF (power)

## TLV0832CPE4
designator U?
8-Bit 44.7 kSPS ADC Serial Out, Multiplexed Twin Channel with Single-Ended or Differential Option, 0 to 70 degC , 8-pin DIP (P8), Green (RoHS and no Sb/Br); Manufacturer: Texas Instruments; PartNumber: TLV0832CPE4; # Input Channels: 2; Analog Voltage AV/DD(Max)(V): 3.6; Analog Voltage AV/DD(Min)(V): 2.7; Architecture: SAR; Eco-Plan: Green (RoHS & no Sb/Br); INL(Max)(+/-LSB): 0.5; Interface: Serial SPI; Resolution(Bits): 8; Sample Rate (max)(SPS): 44.7k; SubFamily: Precision ADC (<=10MSPS); DatasheetVersion: SLAS148; PackageVersion: 4040082/E, 04/2010; PackageReference: P8; PackageDescription: 8-Pin Plastic In-Line, Body 9.59 x 6.35 mm, Pitch 2.54 mm; Supplier 1: Digi-Key; Supplier Part Number 1: 296-28095-ND; Supplier 2: Newark; Supplier Part Number 2: 24T4538; Supplier 3: Mouser; Supplier Part Number 3: 595-AFE5808ZCF; Digital Supply(Max)(V): 3.6; Digital Supply(Min)(V): 2.7; Mounting Technology: Through Hole; Code_JEDEC: MS-001; ComponentLink1Description: Manufacturer URL; ComponentLink1URL: http://www.ti.com/; ComponentLink2Description: Datasheet; ComponentLink2URL: http://www.ti.com/general/docs/lit/getliterature.tsp?genericPartNumber=TLV0832&fileType=pdf; ComponentLink3Description: Package Specification; ComponentLink3URL: http://www.ti.com/litv/pdf/mpdi001b
footprint TI-P8 (DIP, 8-Leads, Body 9.59x6.35mm, Pitch 2.54mm)
pins: 1 ~{CS} (in), 2 CH0 (in), 3 CH1 (in), 4 GND (power), 5 DI (in), 6 DO (hiz), 7 CLK (in), 8 VCC/REF (power)

## TLV0832ID
designator U?
8-Bit 44.7 kSPS ADC Serial Out, Multiplexed Twin Channel with Single-Ended or Differential Option, -40 to 85 degC, 8-pin SOIC (D8), Green (RoHS and no Sb/Br); Manufacturer: Texas Instruments; PartNumber: TLV0832ID; # Input Channels: 2; Analog Voltage AV/DD(Max)(V): 3.6; Analog Voltage AV/DD(Min)(V): 2.7; Architecture: SAR; Eco-Plan: Green (RoHS & no Sb/Br); INL(Max)(+/-LSB): 0.5; Interface: Serial SPI; Resolution(Bits): 8; Sample Rate (max)(SPS): 44.7k; SubFamily: Precision ADC (<=10MSPS); DatasheetVersion: SLAS148; PackageVersion: 4040047-3/M, 06/2011; PackageReference: D8; PackageDescription: 8-Pin Plastic Small Outline, Body 4.9 x 3.9 mm, Pitch 1.27 mm; Digital Supply(Max)(V): 3.6; Digital Supply(Min)(V): 2.7; Mounting Technology: Surface Mount; Code_JEDEC: MS-012; ComponentLink1Description: Manufacturer URL; ComponentLink1URL: http://www.ti.com/; ComponentLink2Description: Datasheet; ComponentLink2URL: http://www.ti.com/general/docs/lit/getliterature.tsp?genericPartNumber=TLV0832&fileType=pdf; ComponentLink3Description: Package Specification; ComponentLink3URL: http://www.ti.com/litv/pdf/msoi002j
footprint TI-D8_N (SOIC, 8-Leads, Body 4.9x3.9mm, Pitch 1.27mm, IPC Medium Density)
footprint TI-D8_L (SOIC, 8-Leads, Body 4.9x3.9mm, Pitch 1.27mm, IPC High Density)
footprint TI-D8_M (SOIC, 8-Leads, Body 4.9x3.9mm, Pitch 1.27mm, IPC Low Density)
pins: 1 ~{CS} (in), 2 CH0 (in), 3 CH1 (in), 4 GND (power), 5 DI (in), 6 DO (hiz), 7 CLK (in), 8 VCC/REF (power)

## TLV0832IDG4
designator U?
8-Bit 44.7 kSPS ADC Serial Out, Multiplexed Twin Channel with Single-Ended or Differential Option, -40 to 85 degC, 8-pin SOIC (D8), Green (RoHS and no Sb/Br); Manufacturer: Texas Instruments; PartNumber: TLV0832IDG4; # Input Channels: 2; Analog Voltage AV/DD(Max)(V): 3.6; Analog Voltage AV/DD(Min)(V): 2.7; Architecture: SAR; Eco-Plan: Green (RoHS & no Sb/Br); INL(Max)(+/-LSB): 0.5; Interface: Serial SPI; Resolution(Bits): 8; Sample Rate (max)(SPS): 44.7k; SubFamily: Precision ADC (<=10MSPS); DatasheetVersion: SLAS148; PackageVersion: 4040047-3/M, 06/2011; PackageReference: D8; PackageDescription: 8-Pin Plastic Small Outline, Body 4.9 x 3.9 mm, Pitch 1.27 mm; Digital Supply(Max)(V): 3.6; Digital Supply(Min)(V): 2.7; Mounting Technology: Surface Mount; Code_JEDEC: MS-012; ComponentLink1Description: Manufacturer URL; ComponentLink1URL: http://www.ti.com/; ComponentLink2Description: Datasheet; ComponentLink2URL: http://www.ti.com/general/docs/lit/getliterature.tsp?genericPartNumber=TLV0832&fileType=pdf; ComponentLink3Description: Package Specification; ComponentLink3URL: http://www.ti.com/litv/pdf/msoi002j
footprint TI-D8_N (SOIC, 8-Leads, Body 4.9x3.9mm, Pitch 1.27mm, IPC Medium Density)
footprint TI-D8_L (SOIC, 8-Leads, Body 4.9x3.9mm, Pitch 1.27mm, IPC High Density)
footprint TI-D8_M (SOIC, 8-Leads, Body 4.9x3.9mm, Pitch 1.27mm, IPC Low Density)
pins: 1 ~{CS} (in), 2 CH0 (in), 3 CH1 (in), 4 GND (power), 5 DI (in), 6 DO (hiz), 7 CLK (in), 8 VCC/REF (power)

## TLV0832IDR
designator U?
8-Bit 44.7 kSPS ADC Serial Out, Multiplexed Twin Channel with Single-Ended or Differential Option, -40 to 85 degC, 8-pin SOIC (D8), Green (RoHS and no Sb/Br); Manufacturer: Texas Instruments; PartNumber: TLV0832IDR; # Input Channels: 2; Analog Voltage AV/DD(Max)(V): 3.6; Analog Voltage AV/DD(Min)(V): 2.7; Architecture: SAR; Eco-Plan: Green (RoHS & no Sb/Br); INL(Max)(+/-LSB): 0.5; Interface: Serial SPI; Resolution(Bits): 8; Sample Rate (max)(SPS): 44.7k; SubFamily: Precision ADC (<=10MSPS); DatasheetVersion: SLAS148; PackageVersion: 4040047-3/M, 06/2011; PackageReference: D8; PackageDescription: 8-Pin Plastic Small Outline, Body 4.9 x 3.9 mm, Pitch 1.27 mm; Supplier 1: Mouser; Supplier Part Number 1: 595-TLC2543MJB; Digital Supply(Max)(V): 3.6; Digital Supply(Min)(V): 2.7; Mounting Technology: Surface Mount; Code_JEDEC: MS-012; ComponentLink1Description: Manufacturer URL; ComponentLink1URL: http://www.ti.com/; ComponentLink2Description: Datasheet; ComponentLink2URL: http://www.ti.com/general/docs/lit/getliterature.tsp?genericPartNumber=TLV0832&fileType=pdf; ComponentLink3Description: Package Specification; ComponentLink3URL: http://www.ti.com/litv/pdf/msoi002j
footprint TI-D8_N (SOIC, 8-Leads, Body 4.9x3.9mm, Pitch 1.27mm, IPC Medium Density)
footprint TI-D8_L (SOIC, 8-Leads, Body 4.9x3.9mm, Pitch 1.27mm, IPC High Density)
footprint TI-D8_M (SOIC, 8-Leads, Body 4.9x3.9mm, Pitch 1.27mm, IPC Low Density)
pins: 1 ~{CS} (in), 2 CH0 (in), 3 CH1 (in), 4 GND (power), 5 DI (in), 6 DO (hiz), 7 CLK (in), 8 VCC/REF (power)

## TLV0832IDRG4
designator U?
8-Bit 44.7 kSPS ADC Serial Out, Multiplexed Twin Channel with Single-Ended or Differential Option, -40 to 85 degC, 8-pin SOIC (D8), Green (RoHS and no Sb/Br); Manufacturer: Texas Instruments; PartNumber: TLV0832IDRG4; # Input Channels: 2; Analog Voltage AV/DD(Max)(V): 3.6; Analog Voltage AV/DD(Min)(V): 2.7; Architecture: SAR; Eco-Plan: Green (RoHS & no Sb/Br); INL(Max)(+/-LSB): 0.5; Interface: Serial SPI; Resolution(Bits): 8; Sample Rate (max)(SPS): 44.7k; SubFamily: Precision ADC (<=10MSPS); DatasheetVersion: SLAS148; PackageVersion: 4040047-3/M, 06/2011; PackageReference: D8; PackageDescription: 8-Pin Plastic Small Outline, Body 4.9 x 3.9 mm, Pitch 1.27 mm; Digital Supply(Max)(V): 3.6; Digital Supply(Min)(V): 2.7; Mounting Technology: Surface Mount; Code_JEDEC: MS-012; ComponentLink1Description: Manufacturer URL; ComponentLink1URL: http://www.ti.com/; ComponentLink2Description: Datasheet; ComponentLink2URL: http://www.ti.com/general/docs/lit/getliterature.tsp?genericPartNumber=TLV0832&fileType=pdf; ComponentLink3Description: Package Specification; ComponentLink3URL: http://www.ti.com/litv/pdf/msoi002j
footprint TI-D8_N (SOIC, 8-Leads, Body 4.9x3.9mm, Pitch 1.27mm, IPC Medium Density)
footprint TI-D8_L (SOIC, 8-Leads, Body 4.9x3.9mm, Pitch 1.27mm, IPC High Density)
footprint TI-D8_M (SOIC, 8-Leads, Body 4.9x3.9mm, Pitch 1.27mm, IPC Low Density)
pins: 1 ~{CS} (in), 2 CH0 (in), 3 CH1 (in), 4 GND (power), 5 DI (in), 6 DO (hiz), 7 CLK (in), 8 VCC/REF (power)

## TLV0832IP
designator U?
8-Bit 44.7 kSPS ADC Serial Out, Multiplexed Twin Channel with Single-Ended or Differential Option, -40 to 85 degC, 8-pin DIP (P8), Green (RoHS and no Sb/Br); Manufacturer: Texas Instruments; PartNumber: TLV0832IP; # Input Channels: 2; Analog Voltage AV/DD(Max)(V): 3.6; Analog Voltage AV/DD(Min)(V): 2.7; Architecture: SAR; Eco-Plan: Green (RoHS & no Sb/Br); INL(Max)(+/-LSB): 0.5; Interface: Serial SPI; Resolution(Bits): 8; Sample Rate (max)(SPS): 44.7k; SubFamily: Precision ADC (<=10MSPS); DatasheetVersion: SLAS148; PackageVersion: 4040082/E, 04/2010; PackageReference: P8; PackageDescription: 8-Pin Plastic In-Line, Body 9.59 x 6.35 mm, Pitch 2.54 mm; Digital Supply(Max)(V): 3.6; Digital Supply(Min)(V): 2.7; Mounting Technology: Through Hole; Code_JEDEC: MS-001; ComponentLink1Description: Manufacturer URL; ComponentLink1URL: http://www.ti.com/; ComponentLink2Description: Datasheet; ComponentLink2URL: http://www.ti.com/general/docs/lit/getliterature.tsp?genericPartNumber=TLV0832&fileType=pdf; ComponentLink3Description: Package Specification; ComponentLink3URL: http://www.ti.com/litv/pdf/mpdi001b
footprint TI-P8 (DIP, 8-Leads, Body 9.59x6.35mm, Pitch 2.54mm)
pins: 1 ~{CS} (in), 2 CH0 (in), 3 CH1 (in), 4 GND (power), 5 DI (in), 6 DO (hiz), 7 CLK (in), 8 VCC/REF (power)

## TLV0832IPE4
designator U?
8-Bit 44.7 kSPS ADC Serial Out, Multiplexed Twin Channel with Single-Ended or Differential Option, -40 to 85 degC, 8-pin DIP (P8), Green (RoHS & no Sb/Br); Manufacturer: Texas Instruments; PartNumber: TLV0832IPE4; # Input Channels: 2; Analog Voltage AV/DD(Max)(V): 3.6; Analog Voltage AV/DD(Min)(V): 2.7; Architecture: SAR; INL(Max)(+/-LSB): 0.5; Interface: Serial SPI; Resolution(Bits): 8; Sample Rate (max)(SPS): 44.7k; SubFamily: Precision ADC (<=10MSPS); DatasheetVersion: SLAS148; PackageVersion: 4040082/E, 04/2010; PackageReference: P8; PackageDescription: 8-Pin Plastic In-Line, Body 9.59 x 6.35 mm, Pitch 2.54 mm; Digital Supply(Max)(V): 3.6; Digital Supply(Min)(V): 2.7; Eco-Plan: Green (RoHS & no Sb/Br); Mounting Technology: Through Hole; Code_JEDEC: MS-001; ComponentLink1Description: Manufacturer URL; ComponentLink1URL: http://www.ti.com/; ComponentLink2Description: Datasheet; ComponentLink2URL: http://www.ti.com/general/docs/lit/getliterature.tsp?genericPartNumber=TLV0832&fileType=pdf; ComponentLink3Description: Package Specification; ComponentLink3URL: http://www.ti.com/litv/pdf/mpdi001b
footprint TI-P8 (DIP, 8-Leads, Body 9.59x6.35mm, Pitch 2.54mm)
pins: 1 ~{CS} (in), 2 CH0 (in), 3 CH1 (in), 4 GND (power), 5 DI (in), 6 DO (hiz), 7 CLK (in), 8 VCC/REF (power)

## TLV0834CD
designator U?
8-Bit 41 kSPS ADC Serial Out, Ratiometric Operational or VCC REF, TTL / MOS Input and Output Compatible, 4 Channel, 0 to 70 degC, 14-pin SOIC (D14), Green (RoHS and no Sb/Br); Manufacturer: Texas Instruments; PartNumber: TLV0834CD; # Input Channels: 4; Analog Voltage AV/DD(Max)(V): 3.6; Analog Voltage AV/DD(Min)(V): 2.7; Architecture: SAR; Eco-Plan: Green (RoHS & no Sb/Br); INL(Max)(+/-LSB): 0.5; Interface: Serial SPI; Resolution(Bits): 8; Sample Rate (max)(SPS): 41k; SubFamily: Precision ADC (<=10MSPS); DatasheetVersion: SLAS147B; PackageVersion: 4040047-5/M, 06/2011; PackageReference: D14; PackageDescription: 14-Pin Plastic Small Outline, Body 8.65 x 3.9 mm, Pitch 1.27 mm; Digital Supply(Max)(V): 3.6; Digital Supply(Min)(V): 2.7; Mounting Technology: Surface Mount; Code_JEDEC: MS-012; ComponentLink1Description: Manufacturer URL; ComponentLink1URL: http://www.ti.com/; ComponentLink2Description: Datasheet; ComponentLink2URL: http://www.ti.com/general/docs/lit/getliterature.tsp?genericPartNumber=TLV0834&fileType=pdf; ComponentLink3Description: Package Specification; ComponentLink3URL: http://www.ti.com/lit/ml/mpds177g/mpds177g.pdf
footprint TI-D14_N (SOIC, 14-Leads, Body 8.65x3.9mm, Pitch 1.27mm, IPC Medium Density)
footprint TI-D14_L (SOIC, 14-Leads, Body 8.65x3.9mm, Pitch 1.27mm, IPC High Density)
footprint TI-D14_M (SOIC, 14-Leads, Body 8.65x3.9mm, Pitch 1.27mm, IPC Low Density)
pins: 1 NC, 2 ~{CS} (in), 3 CH0 (in), 4 CH1 (in), 5 CH2 (in), 6 CH3 (in), 7 DGTL GND (power), 8 ANLG GND (power), 9 REF (in), 10 DO (hiz), 11 SARS (hiz), 12 CLK (in), 13 DI (in), 14 VCC (power)

## TLV0834CDG4
designator U?
8-Bit 41 kSPS ADC Serial Out, Ratiometric Operational or VCC REF, TTL / MOS Input and Output Compatible, 4 Channel, 0 to 70 degC, 14-pin SOIC (D14), Green (RoHS and no Sb/Br); Manufacturer: Texas Instruments; PartNumber: TLV0834CDG4; # Input Channels: 4; Analog Voltage AV/DD(Max)(V): 3.6; Analog Voltage AV/DD(Min)(V): 2.7; Architecture: SAR; Eco-Plan: Green (RoHS & no Sb/Br); INL(Max)(+/-LSB): 0.5; Interface: Serial SPI; Resolution(Bits): 8; Sample Rate (max)(SPS): 41k; SubFamily: Precision ADC (<=10MSPS); DatasheetVersion: SLAS147B; PackageVersion: 4040047-5/M, 06/2011; PackageReference: D14; PackageDescription: 14-Pin Plastic Small Outline, Body 8.65 x 3.9 mm, Pitch 1.27 mm; Digital Supply(Max)(V): 3.6; Digital Supply(Min)(V): 2.7; Mounting Technology: Surface Mount; Code_JEDEC: MS-012; ComponentLink1Description: Manufacturer URL; ComponentLink1URL: http://www.ti.com/; ComponentLink2Description: Datasheet; ComponentLink2URL: http://www.ti.com/general/docs/lit/getliterature.tsp?genericPartNumber=TLV0834&fileType=pdf; ComponentLink3Description: Package Specification; ComponentLink3URL: http://www.ti.com/lit/ml/mpds177g/mpds177g.pdf
footprint TI-D14_N (SOIC, 14-Leads, Body 8.65x3.9mm, Pitch 1.27mm, IPC Medium Density)
footprint TI-D14_L (SOIC, 14-Leads, Body 8.65x3.9mm, Pitch 1.27mm, IPC High Density)
footprint TI-D14_M (SOIC, 14-Leads, Body 8.65x3.9mm, Pitch 1.27mm, IPC Low Density)
pins: 1 NC, 2 ~{CS} (in), 3 CH0 (in), 4 CH1 (in), 5 CH2 (in), 6 CH3 (in), 7 DGTL GND (power), 8 ANLG GND (power), 9 REF (in), 10 DO (hiz), 11 SARS (hiz), 12 CLK (in), 13 DI (in), 14 VCC (power)

## TLV0834CDR
designator U?
8-Bit 41 kSPS ADC Serial Out, Ratiometric Operational or VCC REF, TTL / MOS Input and Output Compatible, 4 Channel, 0 to 70 degC, 14-pin SOIC (D14), Green (RoHS and no Sb/Br); Manufacturer: Texas Instruments; PartNumber: TLV0834CDR; # Input Channels: 4; Analog Voltage AV/DD(Max)(V): 3.6; Analog Voltage AV/DD(Min)(V): 2.7; Architecture: SAR; Eco-Plan: Green (RoHS & no Sb/Br); INL(Max)(+/-LSB): 0.5; Interface: Serial SPI; Resolution(Bits): 8; Sample Rate (max)(SPS): 41k; SubFamily: Precision ADC (<=10MSPS); DatasheetVersion: SLAS147B; PackageVersion: 4040047-5/M, 06/2011; PackageReference: D14; PackageDescription: 14-Pin Plastic Small Outline, Body 8.65 x 3.9 mm, Pitch 1.27 mm; Supplier 1: Digi-Key; Supplier Part Number 1: 296-36046-5-ND; Supplier 2: Newark; Supplier Part Number 2: 06W1986; Supplier 3: Mouser; Supplier Part Number 3: 595-ADS1243SJD; Digital Supply(Max)(V): 3.6; Digital Supply(Min)(V): 2.7; Mounting Technology: Surface Mount; Code_JEDEC: MS-012; ComponentLink1Description: Manufacturer URL; ComponentLink1URL: http://www.ti.com/; ComponentLink2Description: Datasheet; ComponentLink2URL: http://www.ti.com/general/docs/lit/getliterature.tsp?genericPartNumber=TLV0834&fileType=pdf; ComponentLink3Description: Package Specification; ComponentLink3URL: http://www.ti.com/lit/ml/mpds177g/mpds177g.pdf
footprint TI-D14_N (SOIC, 14-Leads, Body 8.65x3.9mm, Pitch 1.27mm, IPC Medium Density)
footprint TI-D14_L (SOIC, 14-Leads, Body 8.65x3.9mm, Pitch 1.27mm, IPC High Density)
footprint TI-D14_M (SOIC, 14-Leads, Body 8.65x3.9mm, Pitch 1.27mm, IPC Low Density)
pins: 1 NC, 2 ~{CS} (in), 3 CH0 (in), 4 CH1 (in), 5 CH2 (in), 6 CH3 (in), 7 DGTL GND (power), 8 ANLG GND (power), 9 REF (in), 10 DO (hiz), 11 SARS (hiz), 12 CLK (in), 13 DI (in), 14 VCC (power)

## TLV0834CDRG4
designator U?
8-Bit 41 kSPS ADC Serial Out, Ratiometric Operational or VCC REF, TTL / MOS Input and Output Compatible, 4 Channel, 0 to 70 degC, 14-pin SOIC (D14), Green (RoHS and no Sb/Br); Manufacturer: Texas Instruments; PartNumber: TLV0834CDRG4; # Input Channels: 4; Analog Voltage AV/DD(Max)(V): 3.6; Analog Voltage AV/DD(Min)(V): 2.7; Architecture: SAR; Eco-Plan: Green (RoHS & no Sb/Br); INL(Max)(+/-LSB): 0.5; Interface: Serial SPI; Resolution(Bits): 8; Sample Rate (max)(SPS): 41k; SubFamily: Precision ADC (<=10MSPS); DatasheetVersion: SLAS147B; PackageVersion: 4040047-5/M, 06/2011; PackageReference: D14; PackageDescription: 14-Pin Plastic Small Outline, Body 8.65 x 3.9 mm, Pitch 1.27 mm; Supplier 1: Digi-Key; Supplier Part Number 1: ADS1115QDGSRQ1-ND; Supplier 2: Newark; Supplier Part Number 2: 76T5190; Supplier 3: Mouser; Supplier Part Number 3: 595-ADS1115QDGSRQ1; Digital Supply(Max)(V): 3.6; Digital Supply(Min)(V): 2.7; Mounting Technology: Surface Mount; Code_JEDEC: MS-012; ComponentLink1Description: Manufacturer URL; ComponentLink1URL: http://www.ti.com/; ComponentLink2Description: Datasheet; ComponentLink2URL: http://www.ti.com/general/docs/lit/getliterature.tsp?genericPartNumber=TLV0834&fileType=pdf; ComponentLink3Description: Package Specification; ComponentLink3URL: http://www.ti.com/lit/ml/mpds177g/mpds177g.pdf
footprint TI-D14_N (SOIC, 14-Leads, Body 8.65x3.9mm, Pitch 1.27mm, IPC Medium Density)
footprint TI-D14_L (SOIC, 14-Leads, Body 8.65x3.9mm, Pitch 1.27mm, IPC High Density)
footprint TI-D14_M (SOIC, 14-Leads, Body 8.65x3.9mm, Pitch 1.27mm, IPC Low Density)
pins: 1 NC, 2 ~{CS} (in), 3 CH0 (in), 4 CH1 (in), 5 CH2 (in), 6 CH3 (in), 7 DGTL GND (power), 8 ANLG GND (power), 9 REF (in), 10 DO (hiz), 11 SARS (hiz), 12 CLK (in), 13 DI (in), 14 VCC (power)

## TLV0834CPW
designator U?
8-Bit 41 kSPS ADC Serial Out, Ratiometric Operational or VCC REF, TTL / MOS Input and Output Compatible, 4 Channel, 0 to 70 degC, 16-pin SOP (PW16), Green (RoHS & no Sb/Br); Manufacturer: Texas Instruments; PartNumber: TLV0834CPW; # Input Channels: 4; Analog Voltage AV/DD(Max)(V): 3.6; Analog Voltage AV/DD(Min)(V): 2.7; Architecture: SAR; INL(Max)(+/-LSB): 0.5; Interface: Serial SPI; Resolution(Bits): 8; Sample Rate (max)(SPS): 41k; SubFamily: Precision ADC (<=10MSPS); DatasheetVersion: SLAS147B; PackageVersion: 4040064-4/G, 02/2011; PackageReference: PW16; PackageDescription: 16-Pin Plastic Small Outline, Body 5 x 4.4 mm, Pitch 0.65 mm; Supplier 1: Digi-Key; Supplier Part Number 1: 296-30137-5-ND; Supplier 2: Newark; Supplier Part Number 2: 76T5198; Supplier 3: Mouser; Supplier Part Number 3: 595-ADS1292IPBS; Digital Supply(Max)(V): 3.6; Digital Supply(Min)(V): 2.7; Eco-Plan: Green (RoHS & no Sb/Br); Mounting Technology: Surface Mount; Code_JEDEC: MO-153; ComponentLink1Description: Manufacturer URL; ComponentLink1URL: http://www.ti.com/; ComponentLink2Description: Datasheet; ComponentLink2URL: http://www.ti.com/general/docs/lit/getliterature.tsp?genericPartNumber=TLV0834&fileType=pdf; ComponentLink3Description: Package Specification; ComponentLink3URL: http://www.ti.com/lit/ml/mpds361/mpds361.pdf
footprint TI-PW16_N (SOP, 16-Leads, Body 5x4.4mm, Pitch 0.65mm, IPC Medium Density)
footprint TI-PW16_L (SOP, 16-Leads, Body 5x4.4mm, Pitch 0.65mm, IPC High Density)
footprint TI-PW16_M (SOP, 16-Leads, Body 5x4.4mm, Pitch 0.65mm, IPC Low Density)
part A pins: 2 ~{CS} (in), 3 CH0 (in), 4 CH1 (in), 5 CH2 (in), 6 CH3 (in), 7 DGTL GND (power), 10 ANLG GND (power), 11 REF (in), 12 DO (hiz), 13 SARS (hiz), 14 CLK (in), 15 DI (in), 16 VCC (power)
part B pins: 1 NC, 8 NC, 9 NC